# Altium footprint library Vishay.PcbLib: 4 footprints
Each footprint in its own frame and in the unit in brackets; x right, y up, seen from the top. Pads: shape width x height; smd on the part's side, far side on the other; paste and mask are expansions set on the pad; w line width, h text height; cw(c..) or ccw(c..) is an arc to the next point about the centre after c.
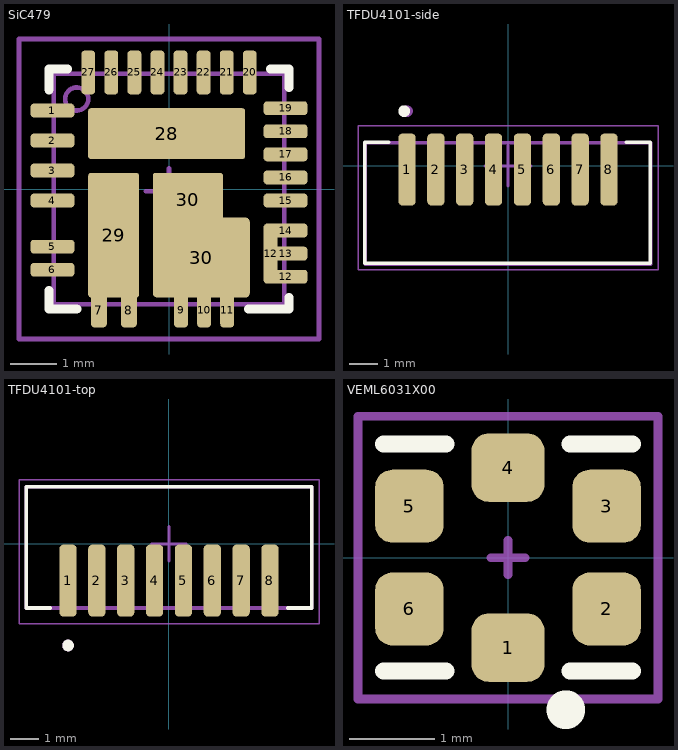
[diagram p0: the footprints below, top view; thin cyan lines are the x and y axes]

## SiC479 [mm]
pads (32):
  rrect50% 0.95x0.3 smd: 1(-2.525,1.7) 2(-2.525,1.05) 3(-2.525,0.4) 4(-2.525,-0.25) 5(-2.525,-1.25) 6(-2.525,-1.75) 12(2.525,-1.9) 13(2.525,-1.4) 14(2.525,-0.9) 15(2.525,-0.25) 16(2.525,0.25) 17(2.525,0.75) 18(2.525,1.25) 19(2.525,1.75)
  rrect50% 0.35x0.75 smd: 7(-1.52,-2.625) 8(-0.87,-2.625)
  rrect50% 0.3x0.75 smd: 9(0.26,-2.625) 10(0.76,-2.625) 11(1.26,-2.625)
  rrect50% 0.3x1.3 smd: 12(2.2,-1.4)
  rrect50% 0.3x0.95 smd: 20(1.75,2.525) 21(1.25,2.525) 22(0.75,2.525) 23(0.25,2.525) 24(-0.25,2.525) 25(-0.75,2.525) 26(-1.25,2.525) 27(-1.75,2.525)
  rrect10% 3.4x1.1 smd: 28(-0.05,1.2)
  rrect10% 1.1x2.7 smd: 29(-1.2,-1)
  rrect10% 1.52x1.17 smd: 30(0.41,-0.235)
  rrect10% 2.1x1.73 smd: 30(0.7,-1.485)
Top Overlay:
  lines w0.2: -2.6,-2.2 -2.6,-2.6 -2,-2.6 ; -2.6,2.15 -2.6,2.6 -2.2,2.6 ; 1.725,-2.6 2.6,-2.6 2.6,-2.35 ; 2.2,2.6 2.6,2.6 2.6,2.2
3D Top:
  circle w0.1: c-2,1.95 r0.25
  lines w0.1: -2.5,-2.5 2.5,-2.5 2.5,2.5 -2.5,2.5 -2.5,-2.5
Courtyard Top:
  lines w0.1: -0.5,-0.05 0.5,-0.05 ; 0,-0.55 0,0.45 ; -3.25,-3.25 -3.25,3.25 3.25,3.25 3.25,-3.25 -3.25,-3.25
3D body: height 0.9, standoff 0, extent -2.5,-2.5 2.5,2.5

## TFDU4101-side [mm] "Infrared Transceiver"
height 4.2
pads (8):
  rrect50% 0.6x2.5 smd paste-2: 1(-3.5,-0.125) 2(-2.5,-0.125) 3(-1.5,-0.125) 4(-0.5,-0.125) 5(0.5,-0.125) 6(1.5,-0.125) 7(2.5,-0.125) 8(3.5,-0.125)
Top Overlay:
  circle w0.2: c-3.6,1.9 r0.1
  lines w0.127: -4.14,0.825 -4.97,0.825 -4.97,-3.375 4.93,-3.375 4.93,0.825 4.1,0.825
Top Paste:
  rectangle: -3.9,0.075 3.9,0.575
3D Top:
  circle w0.2: c-3.5,1.9 r0.1
  lines w0.127: -4.95,-3.4 -4.95,0.8 4.95,0.8 4.95,-3.4 -4.95,-3.4
Courtyard Top:
  lines w0.05: -5.2,-3.6 5.2,-3.6 5.2,1.4 -5.2,1.4 -5.2,-3.6
  lines w0.1: -0.8,0 0.8,0 ; 0,-0.7 0,0.7
3D body: height 4.2, standoff 0, extent -4.95,-3.9 4.95,0.8

## TFDU4101-top [mm] "Infrared Transceiver"
height 4.7
pads (8):
  rrect50% 0.6x2.5 smd paste-2: 1(-3.5,-1.275) 2(-2.5,-1.275) 3(-1.5,-1.275) 4(-0.5,-1.275) 5(0.5,-1.275) 6(1.5,-1.275) 7(2.5,-1.275) 8(3.5,-1.275)
Top Overlay:
  circle w0.2: c-3.5,-3.525 r0.1
  lines w0.127: -4.12,-2.225 -4.95,-2.225 -4.95,1.975 4.95,1.975 4.95,-2.225 4.12,-2.225
Top Paste:
  rectangle: -3.9,-1.975 3.9,-1.475
3D Top:
  circle w0.2: c-3.5,-3.525 r0.1
  lines w0.127: -4.95,-2.225 4.95,-2.225 4.95,1.975 -4.95,1.975 -4.95,-2.225
Courtyard Top:
  lines w0.05: -5.2,-2.775 5.2,-2.775 5.2,2.225 -5.2,2.225 -5.2,-2.775
  lines w0.1: -0.6,0 0.6,0 ; 0,-0.6 0,0.6
3D body: height 4.7, standoff 0, extent -4.95,-2.225 4.95,1.975

## VEML6031X00 [mm] "High Accuracy Ambient Light Sensor With I2C Interface"
height 0.6
pads (6):
  rrect50% 0.85x0.8 smd: 1(0,-1.05) 4(0,1.05)
  rrect50% 0.8x0.85 smd: 2(1.15,-0.6) 3(1.15,0.6) 5(-1.15,0.6) 6(-1.15,-0.6)
Top Overlay:
  circle w0.4: c0.675,-1.775 r0.025
  lines w0.2: -1.45,-1.325 -0.725,-1.325 ; -1.45,1.325 -0.725,1.325 ; 0.725,-1.325 1.45,-1.325 ; 0.725,1.325 1.45,1.325
Courtyard Top:
  lines w0.1: -0.2,0 0.2,0 ; 0,-0.2 0,0.2 ; -1.75,-1.65 1.75,-1.65 1.75,1.65 -1.75,1.65 -1.75,-1.65
3D body: height 0.6, standoff 0, extent -1.336,-1.225 1.336,1.225